# EAGLE library part MSGEQ7 (library msgeq7)
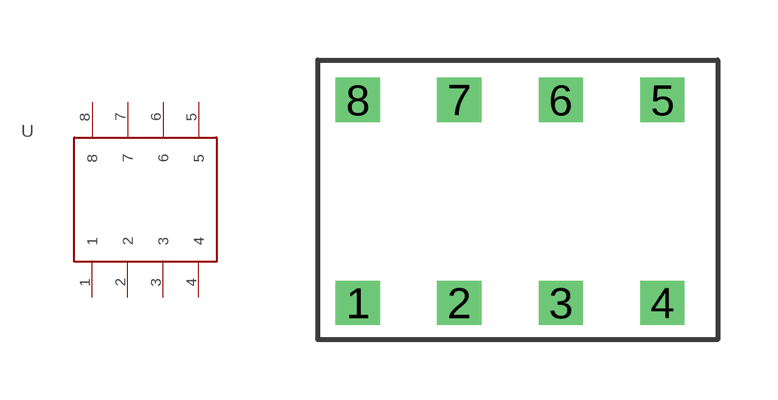
[diagram p0: symbol with the pads of MSGEQ7; footprint MSGEQ7]

Designator prefix -

## MSGEQ7  [MSGEQ7]
1  1
2  2
3  3
4  4
5  5
6  6
7  7
8  8

## Footprint MSGEQ7 (pad centres in mm)
drill 0.6 square: 1 0,-5.08; 2 2.54,-5.08; 3 5.08,-5.08; 4 7.62,-5.08; 5 7.62,0; 6 5.08,0; 7 2.54,0; 8 0,0